# Altium schematic symbol library SRP7020TA-8R2M.SchLib: 2 symbols
Pins are listed as number, name and electrical type; pins without a type are passive.

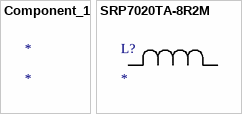
[diagram p0: symbols Component_1 to SRP7020TA-8R2M]

## Component_1
designator *

## SRP7020TA-8R2M
designator L?
No Description Available; Mfr_Name: Bourns Electronics
footprint IND_SRP7020TA-8R2M_BRN
pins: 1, 2